# Altium schematic symbol library Terminals.SchLib: 6 symbols
Pins are listed as number, name and electrical type; pins without a type are passive.

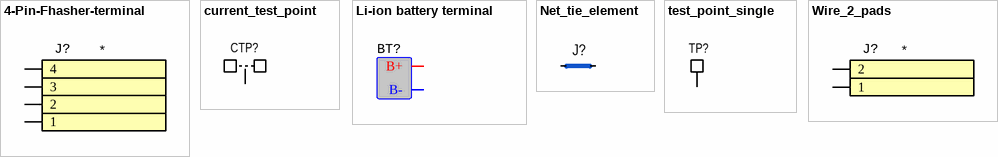
[diagram p0: symbols 4-Pin-Fhasher-terminal to Wire_2_pads]

## 4-Pin-Fhasher-terminal
designator J?
Simple 2 pads to solder wire without connector
footprint 4-PIN_Fhasher_Header
pins: 1 "internally not connected", 2 "internally not connected", 3 "internally not connected", 4 "internally not connected"

## current_test_point
designator CTP?  (value not drawn)  (no BOM)
Use for measure current consumption
footprint current_test_point_2 (As one pad)
pins: 1

## Li-ion battery terminal
designator BT?  (value not drawn)  (no BOM)
Вручну припаяна батарейка
footprint BATT_WIRE_TERMINAL (Use for handly weild battery)
footprint BAT_WIRE_TERMINAL2 (Especially for the P2 project)
pins: 1 B-, 2 B+

## Net_tie_element
designator J?  (value not drawn)  (net tie, no BOM)
footprint net_tie_0805
footprint net_tie_wire
footprint net_tie_wire_2
footprint net_tie_one_point
footprint net_tie_wire_3
footprint net_tie_wire_4
pins: 1, 2

## test_point_single
designator TP?  (value not drawn)  (no BOM)
footprint test_point_single
footprint TEST_POINT_SMD
footprint test_point_SMD_rounded
footprint TEST_POINT_SMD_1mm
pins: 1

## Wire_2_pads
designator J?  (no BOM)
Simple 2 pads to solder wire without connector
footprint 2_wire_terminal (2.54 mm step simple terminal. / Can be used with wire or PLS-2)
footprint 2_WIRE (simple two pads for hand welding)
footprint BATT_WIRE_TERMINAL (Use for handly weild battery)
footprint 2_WIRE_1.2x1.2 (simple two pads for hand welding)
footprint BAT_WIRE_TERMINAL2 (Especially for the P2 project)
footprint 2Wire_3mm (Especially for the P2 project)
pins: 1 "internally not connected", 2 "internally not connected"